# Altium footprint library PcbLib1.PcbLib: 264 footprints (part 1 of 17)
Each footprint in its own frame and in the unit in brackets; x right, y up, seen from the top. Pads: shape width x height; smd on the part's side, far side on the other; paste and mask are expansions set on the pad; w line width, h text height; cw(c..) or ccw(c..) is an arc to the next point about the centre after c.
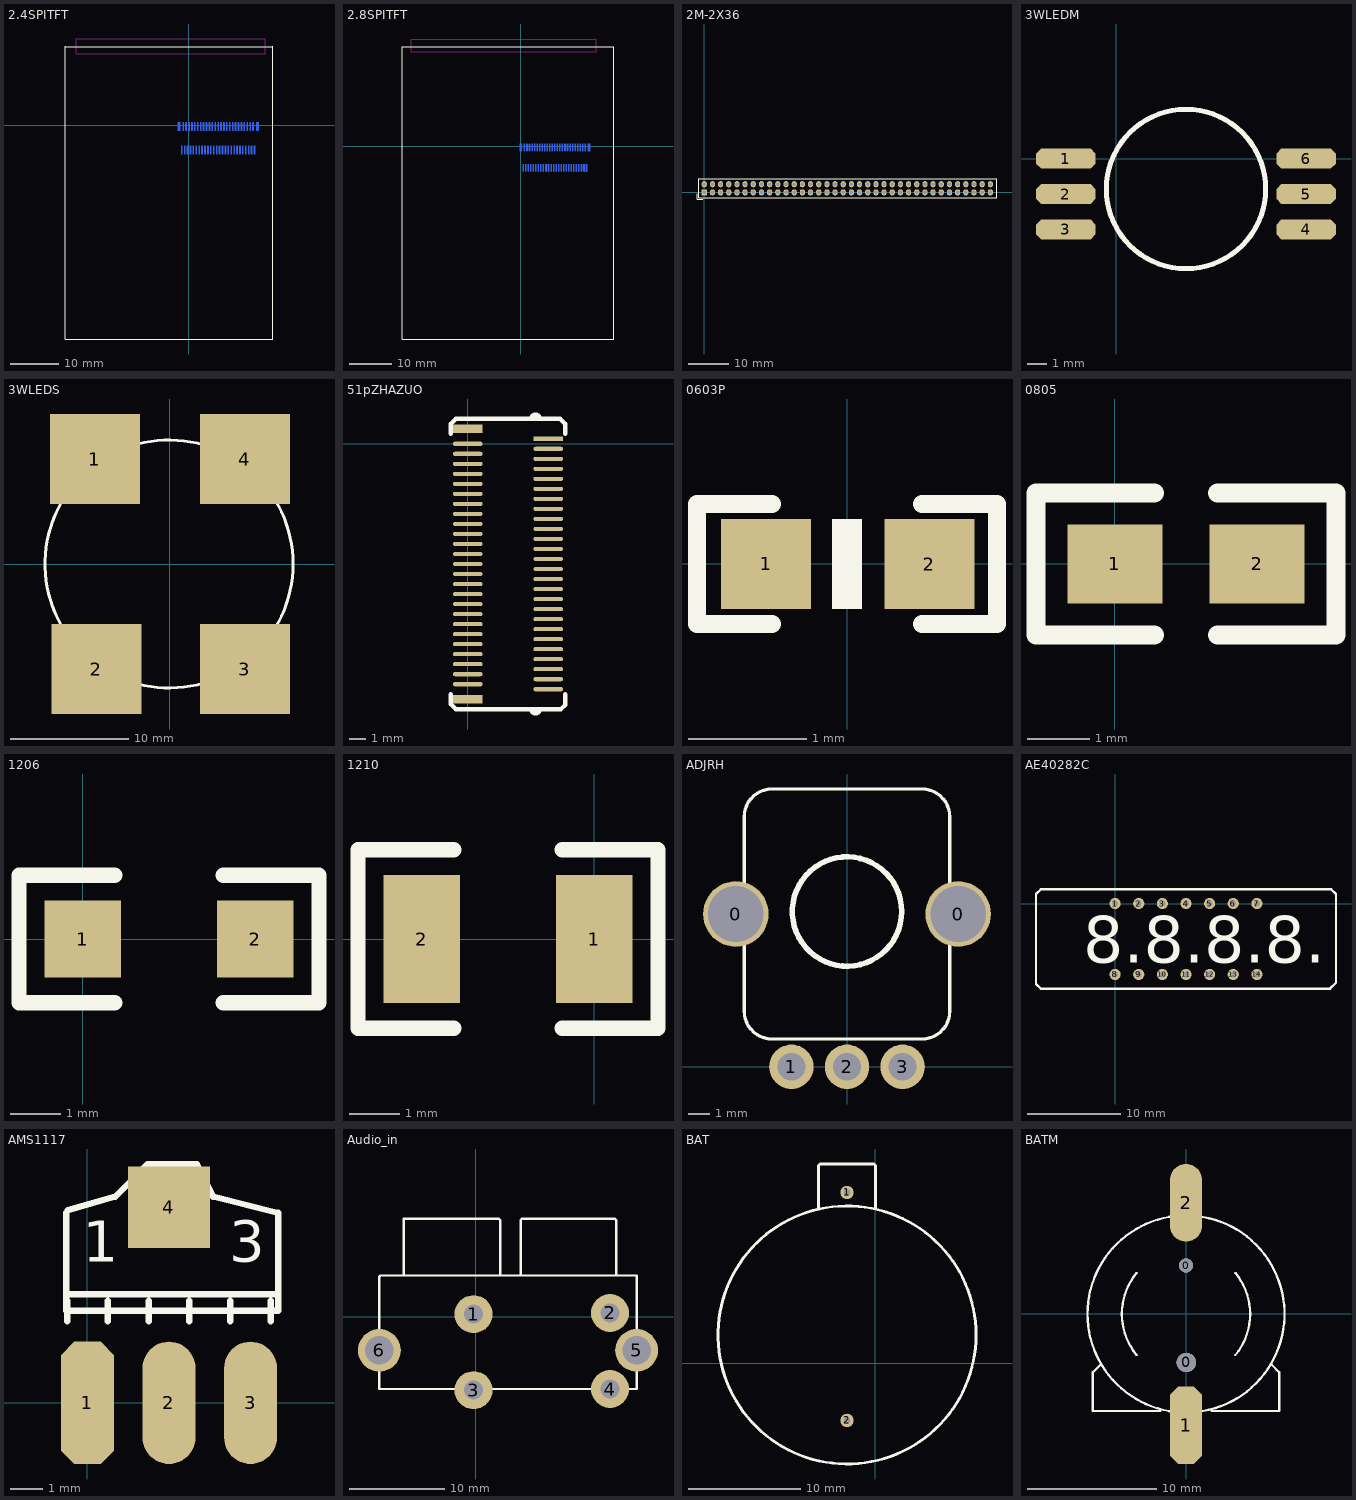
[diagram p0: the footprints below, top view; thin cyan lines are the x and y axes]

## 2.4SPITFT [mil] "2.4_TFT"
height 78.74
pads (53):
  rect 10x70 smd far side: 1(534.17,-200)
  oval 10x70 smd far side: 2(522.36,-10) 3(510.55,-200) 4(498.74,-10) 5(486.93,-200) 6(475.12,-10) 7(463.31,-200) 8(451.5,-10) 9(439.68,-200) 10(427.87,-10) 11(416.06,-200) 12(404.25,-10) 13(392.44,-200) 14(380.63,-10) 15(368.82,-200) 16(357.01,-10) 17(345.2,-200) 18(333.38,-10) 19(321.57,-200) 20(309.76,-10) 21(297.95,-200) 22(286.14,-10) 23(274.33,-200) 24(262.52,-10) 25(250.71,-200) 26(238.9,-10) 27(227.09,-200) 28(215.28,-10) 29(203.46,-200) 30(191.65,-10) 31(179.84,-200) 32(168.03,-10) 33(156.22,-200) 34(144.41,-10) 35(132.6,-200) 36(120.79,-10) 37(108.98,-200) 38(97.17,-10) 39(85.35,-200) 40(73.54,-10) 41(61.73,-200) 42(49.92,-10) 43(38.11,-200) 44(26.3,-10) 45(14.49,-200) 46(2.68,-10) 47(-9.13,-200) 48(-20.95,-10) 49(-32.76,-200) 50(-44.57,-10) 51(-56.38,-200)
  rect 20x70 smd far side: ""(-80,-10) ""(557.79,-10)
Top Overlay:
  lines w5: -1000.94,640 -1000.94,-1733.23 680.94,-1733.23 680.94,640 ; -1000,639 681.89,639
Bottom Overlay:
  lines w5: -61.57,-174.88 552.6,-174.88 552.6,637.4
  lines w10: -103.62,-180 cw(c-103.62,-170) -103.62,-160 ; -68.19,-240 -93.62,-240 -103.62,-230 -103.62,18.19 -91.81,30 -68.19,30 ; 545.98,-240 569.61,-240 581.42,-228.19 581.42,18.19 569.61,30 545.98,30 ; 581.42,-180 ccw(c581.42,-170) 581.42,-160
Keep-Out Layer:
  lines w5: -910,580 620,580 620,700 -910,700 -910,580

## 2.8SPITFT [mil] "2.8_TFT"
height 78.74
pads (53):
  rect 10x70 smd far side: 1(615,-200)
  oval 10x70 smd far side: 2(603.19,-10) 3(591.38,-200) 4(579.57,-10) 5(567.76,-200) 6(555.95,-10) 7(544.13,-200) 8(532.32,-10) 9(520.51,-200) 10(508.7,-10) 11(496.89,-200) 12(485.08,-10) 13(473.27,-200) 14(461.46,-10) 15(449.65,-200) 16(437.83,-10) 17(426.02,-200) 18(414.21,-10) 19(402.4,-200) 20(390.59,-10) 21(378.78,-200) 22(366.97,-10) 23(355.16,-200) 24(343.35,-10) 25(331.54,-200) 26(319.73,-10) 27(307.91,-200) 28(296.1,-10) 29(284.29,-200) 30(272.48,-10) 31(260.67,-200) 32(248.86,-10) 33(237.05,-200) 34(225.24,-10) 35(213.43,-200) 36(201.62,-10) 37(189.8,-200) 38(177.99,-10) 39(166.18,-200) 40(154.37,-10) 41(142.56,-200) 42(130.75,-10) 43(118.94,-200) 44(107.13,-10) 45(95.32,-200) 46(83.5,-10) 47(71.69,-200) 48(59.88,-10) 49(48.07,-200) 50(36.26,-10) 51(24.45,-200)
  rect 20x70 smd far side: ""(0.83,-10) ""(638.62,-10)
Top Overlay:
  lines w5: 626.81,928.66 867.36,928.66 ; 867.36,928.66 867.36,-1795.75 -1101.14,-1795.75 -1101.14,928.66 867.36,928.66
Bottom Overlay:
  lines w5: -984.21,930 -984.21,-170 626.81,-170 ; 626.81,-32.2 12.64,-32.2 ; 626.81,930 626.81,-170 ; 12.64,-170 626.81,-170 ; 12.64,-170 12.64,-32.2 ; 12.64,-170 12.64,-32.2
  lines w10: -22.79,-180 cw(c-22.79,-170) -22.79,-160 ; 12.64,-240 -12.79,-240 -22.79,-230 -22.79,18.19 -10.98,30 12.64,30 ; 626.81,-240 650.43,-240 662.24,-228.19 662.24,18.19 650.43,30 626.81,30 ; 662.24,-180 ccw(c662.24,-170) 662.24,-160
Keep-Out Layer:
  lines w5: -1018.54,880 707.68,880 707.68,1000 -1018.54,1000 -1018.54,880

## 2M-2X36 [mil]
pads (72):
  rect 50x60 hole 33.46: 1(0,0)
  oval 50x60 hole 33.46: 2(0,78.74)
  oval 50x60 hole 35: 3(78.74,0) 4(78.74,78.74) 5(157.48,0) 6(157.48,78.74) 7(236.22,0) 8(236.22,78.74) 9(314.96,0) 10(314.96,78.74) 11(393.7,0) 12(393.7,78.74) 13(472.44,0) 14(472.44,78.74) 15(551.18,0) 16(551.18,78.74) 17(629.92,0) 18(629.92,78.74) 19(708.66,0) 20(708.66,78.74) 21(787.4,0) 22(787.4,78.74) 23(866.14,0) 24(866.14,78.74) 25(944.88,0) 26(944.88,78.74) 27(1023.62,0) 28(1023.62,78.74) 29(1102.36,0) 30(1102.36,78.74) 31(1181.1,0) 32(1181.1,78.74) 33(1259.84,0) 34(1259.84,78.74) 35(1338.58,0) 36(1338.58,78.74) 37(1417.32,0) 38(1417.32,78.74) 39(1496.06,0) 40(1496.06,78.74) 41(1574.8,0) 42(1574.8,78.74) 43(1653.54,0) 44(1653.54,78.74) 45(1732.28,0) 46(1732.28,78.74) 47(1811.02,0) 48(1811.02,78.74) 49(1889.76,0) 50(1889.76,78.74) 51(1968.5,0) 52(1968.5,78.74) 53(2047.24,0) 54(2047.24,78.74) 55(2125.98,0) 56(2125.98,78.74) 57(2204.72,0) 58(2204.72,78.74) 59(2283.46,0) 60(2283.46,78.74) 61(2362.2,0) 62(2362.2,78.74) 63(2440.94,0) 64(2440.94,78.74) 65(2519.68,0) 66(2519.68,78.74) 67(2598.43,0) 68(2598.43,78.74) 69(2677.17,0) 70(2677.17,78.74) 71(2755.91,0) 72(2755.91,78.74)
Top Overlay:
  lines w10: -70,-15 -70,-65 -15,-65 ; 1365,-50 2820,-50 2820,-40 2820,130 1365,130 ; 1400,-50 -55,-50 -55,130 1400,130

## 3WLEDM [mm] "RGBLED"
pads (6):
  oct 3x1 smd: 1(-2.54,0) 2(-2.54,-1.778) 3(-2.54,-3.556) 4(9.525,-3.556) 5(9.525,-1.778) 6(9.525,0)
Top Overlay:
  circle w0.254: c3.493,-1.524 r4

## 3WLEDS [mil] "3WLED-21"
height 196.85
pads (4):
  rect 300x300 smd: 1(-250,350) 2(-245,-350) 3(250,-350) 4(250,350)
Top Overlay:
  circle w10: c-2.63,0 r413.39

## 51pZHAZUO [mil]
pads (53):
  rect 70x10 smd: 1(190,11.81)
  oval 70x10 smd: 2(0,0) 3(190,-11.81) 4(0,-23.62) 5(190,-35.43) 6(0,-47.24) 7(190,-59.05) 8(0,-70.87) 9(190,-82.68) 10(0,-94.49) 11(190,-106.3) 12(0,-118.11) 13(190,-129.92) 14(0,-141.73) 15(190,-153.54) 16(0,-165.35) 17(190,-177.16) 18(0,-188.98) 19(190,-200.79) 20(0,-212.6) 21(190,-224.41) 22(0,-236.22) 23(190,-248.03) 24(0,-259.84) 25(190,-271.65) 26(0,-283.46) 27(190,-295.27) 28(0,-307.09) 29(190,-318.9) 30(0,-330.71) 31(190,-342.52) 32(0,-354.33) 33(190,-366.14) 34(0,-377.95) 35(190,-389.76) 36(0,-401.57) 37(190,-413.38) 38(0,-425.2) 39(190,-437.01) 40(0,-448.82) 41(190,-460.63) 42(0,-472.44) 43(190,-484.25) 44(0,-496.06) 45(190,-507.87) 46(0,-519.68) 47(190,-531.5) 48(0,-543.31) 49(190,-555.12) 50(0,-566.93) 51(190,-578.74)
  rect 70x20 smd: ""(0,-602.36) ""(0,35.43)
Top Overlay:
  lines w10: -40,-590.55 -40,-614.17 -28.19,-625.98 220,-625.98 230,-615.98 230,-590.55 ; -40,23.62 -40,47.24 -28.19,59.05 218.19,59.05 230,47.24 230,23.62 ; 150,-625.98 ccw(c160,-625.98) 170,-625.98 ; 150,59.05 cw(c160,59.05) 170,59.05

## 0603P [mil]
pads (2):
  rect 30x30 smd: 1(-27,0) 2(27.5,-0.06)
Top Overlay:
  region: 5,-15.06 5,14.94 -5,14.94 -5,-15.06
  lines w6: -25,-20.06 -50,-20.06 -50,19.94 -25,19.94 ; 25,-20.06 50,-20.06 50,19.94 25,19.94

## 0805 [mil]
pads (2):
  rect 60x50 smd: 1(0,-0.06) 2(90,-0.06)
Top Overlay:
  lines w12: 25,-45.06 -50,-45.06 -50,44.94 25,44.94 ; 65,-45.06 140,-45.06 140,44.94 65,44.94

## 1206 [mil]
pads (2):
  rect 60x60 smd: 1(0,0) 2(135,0)
Top Overlay:
  lines w12: 25,-50 -50,-50 -50,50 25,50 ; 110,-50 185,-50 185,50 110,50

## 1210 [mil]
pads (2):
  rect 60x100 smd: 1(0,0) 2(-135,0)
Top Overlay:
  lines w12: -110,-70 -185,-70 -185,70 -110,70 ; -25,-70 50,-70 50,70 -25,70

## ADJRH [mil]
pads (5):
  round 118.11 hole 100: 0(-200,275) 0(200,275)
  round 80 hole 50: 1(-100,0) 2(0,0) 3(100,0)
Top Overlay:
  circle w10: c0,279.48 r98.43
  lines w6: -185,100 ccw(c-135,100) -135,50 135,50 ccw(c135,100) 185,100 185,450 ccw(c135,450) 135,500 -135,500 ccw(c-135,450) -185,450 -185,100

## AE40282C [mm]
height 0.5
pads (14):
  round 1.2 hole 0.635: 1(0,0) 2(2.54,0) 3(5.08,0) 4(7.62,0) 5(10.16,0) 6(12.7,0) 7(15.24,0) 8(0,-7.62) 9(2.54,-7.62) 10(5.08,-7.62) 11(7.62,-7.62) 12(10.16,-7.62) 13(12.7,-7.62) 14(15.24,-7.62)
Top Overlay:
  lines w0.254: -5.207,-9.144 20.32,-9.144 ; -4.826,-9.144 23.114,-9.144 23.749,-8.509 23.749,1.016 23.241,1.524 -8.001,1.524 -8.509,1.016 -8.509,-8.636 -8.001,-9.144 0.889,-9.144
  text "8.8.8.8." at -3.429,-6.35 h5

## AMS1117 [mil]
pads (4):
  oct 65x150 smd: 1(0.03,-0.06)
  oval 65x150 smd: 2(100.03,-0.06) 3(200.03,-0.06)
  rect 100x100 smd: 4(100.03,239.94)
Top Overlay:
  lines w7.87: -25.97,232.94 -25.97,132.94 ; -24.97,99.94 -24.97,124.94 ; -24.3,236.27 34.03,252.94 74.03,292.94 134.03,292.94 154.03,252.94 234.03,232.94 234.03,112.94 ; 25.03,99.94 25.03,124.94 ; 75.03,99.94 75.03,124.94 ; 125.03,99.94 125.03,124.94 ; 175.03,99.94 175.03,124.94 ; 225.03,99.94 225.03,124.94 ; -25.97,132.94 -25.97,112.94 234.03,112.94 ; -25.97,132.94 234.03,132.94 234.03,112.94
  text "1" at -5.97,172.94 h50
  text "3" at 174.03,172.94 h50

## Audio_in [mm]
height 20
pads (6):
  round 4 hole 2: 1(-0.254,0.254) 2(14.097,0.381) 3(-0.254,-7.747) 4(14.097,-7.62)
  round 4.5 hole 3: 5(16.891,-3.556) 6(-10.16,-3.556)
Top Overlay:
  lines w0.254: -7.62,4.318 -7.62,10.287 2.413,10.287 2.54,10.16 2.54,4.318 ; -6.985,4.318 10.795,4.318 ; -6.096,4.318 -10.033,4.318 -10.16,4.191 -10.16,-7.62 10.16,-7.62 ; 4.699,4.318 4.699,9.906 4.699,10.16 4.826,10.287 6.223,10.287 ; 5.842,10.287 7.747,10.287 14.605,10.287 14.732,10.16 14.732,4.318 ; 9.652,-7.62 16.891,-7.62 16.891,2.54 16.891,4.318 10.033,4.318

## BAT [mm] "BATTERY"
pads (2):
  round 1.2 hole 0.635: 1(-2.54,15.24) 2(-2.54,-5.08)
Top Overlay:
  circle w0.254: c-2.54,2.54 r11.5
  lines w0.254: -5.08,13.843 -5.08,17.653 -4.953,17.78 -0.127,17.78 0,17.653 0,13.843

## BATM [mm] "BAT"
height 7
pads (4):
  round 1.1 hole 1.1 unplated: 0(0,3.748)
  round 1.5 hole 1.5 unplated: 0(0.025,-3.752)
  oct 2.5x6 smd: 1(0,-8.602)
  oval 2.5x6 smd: 2(0,8.598)
Top Overlay:
  lines w0.178: -6.6,-3.902 -7.2,-4.502 -7.2,-7.502 -2,-7.502 ; -3.815,-3.171 cw(c0,-0.002) -3.812,3.171 ; -0.833,-7.576 cw(c0,-0.002) -7.62,-0.002 cw(c0,-0.002) -0.833,7.573 ; 0.833,-7.576 ccw(c0,-0.002) 0.833,7.573 ; 2,-7.502 7.2,-7.502 7.2,-4.502 6.625,-3.927 ; 3.81,-3.177 ccw(c0,-0.002) 3.812,3.171